# EAGLE library part PSA08-11GWA (library PSA08-11GWA)
LED Displays & Accessories AlphaNum Grn 568nm Common Anode Source: Datasheet <https://componentsearchengine.com/Datasheets/1/PSA08-11GWA.pdf>
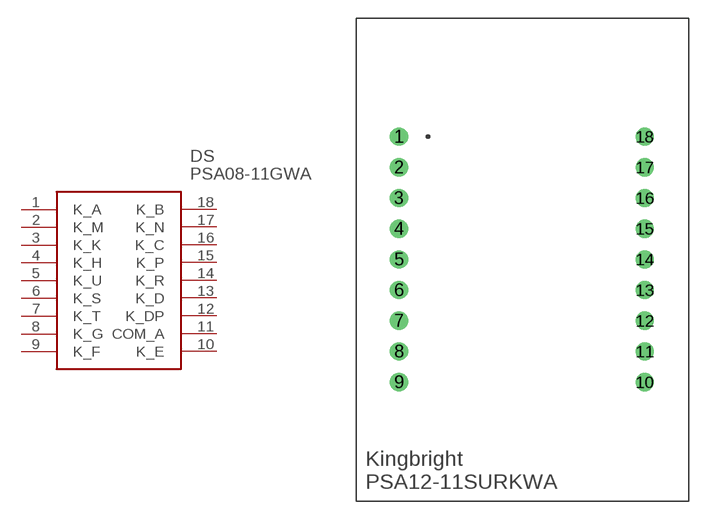
[diagram p0: symbol with the pads of PSA0811GWA; footprint PSA0811GWA]

Designator prefix DS

## PSA08-11GWA (DESCRIPTION: LED Displays & Accessories AlphaNum Grn 568nm Common Anode; HEIGHT: 8.75mm; MANUFACTURER_NAME: Kingbright; MANUFACTURER_PART_NUMBER: PSA08-11GWA; MOUSER_PART_NUMBER: 604-PSA08-11GWA; MOUSER_PRICE-STOCK: https://www.mouser.co.uk/ProductDetail/Kingbright/PSA08-11GWA?qs=VdjlWU%2FzoOGXetunvhrCIw%3D%3D)  [PSA0811GWA]
1  K_A
2  K_M
3  K_K
4  K_H
5  K_U
6  K_S
7  K_T
8  K_G
9  K_F
10  K_E
11  COM_A
12  K_DP
13  K_D
14  K_R
15  K_P
16  K_C
17  K_N
18  K_B

## Footprint PSA0811GWA (pad centres in mm)
PSA08-11GWA-1
drill 1 pad 1.5: 1 -10.21,10.19; 2 -10.21,7.65; 3 -10.21,5.11; 4 -10.21,2.57; 5 -10.21,0.03; 6 -10.21,-2.51; 7 -10.21,-5.05; 8 -10.21,-7.59; 9 -10.21,-10.13; 10 10.11,-10.13; 11 10.11,-7.59; 12 10.11,-5.05; 13 10.11,-2.51; 14 10.11,0.03; 15 10.11,2.57; 16 10.11,5.11; 17 10.11,7.65; 18 10.11,10.19